# Altium footprint library ChipComponents.PcbLib: 44 footprints (part 3 of 3)
Each footprint in its own frame and in the unit in brackets; x right, y up, seen from the top. Pads: shape width x height; smd on the part's side, far side on the other; paste and mask are expansions set on the pad; w line width, h text height; cw(c..) or ccw(c..) is an arc to the next point about the centre after c.
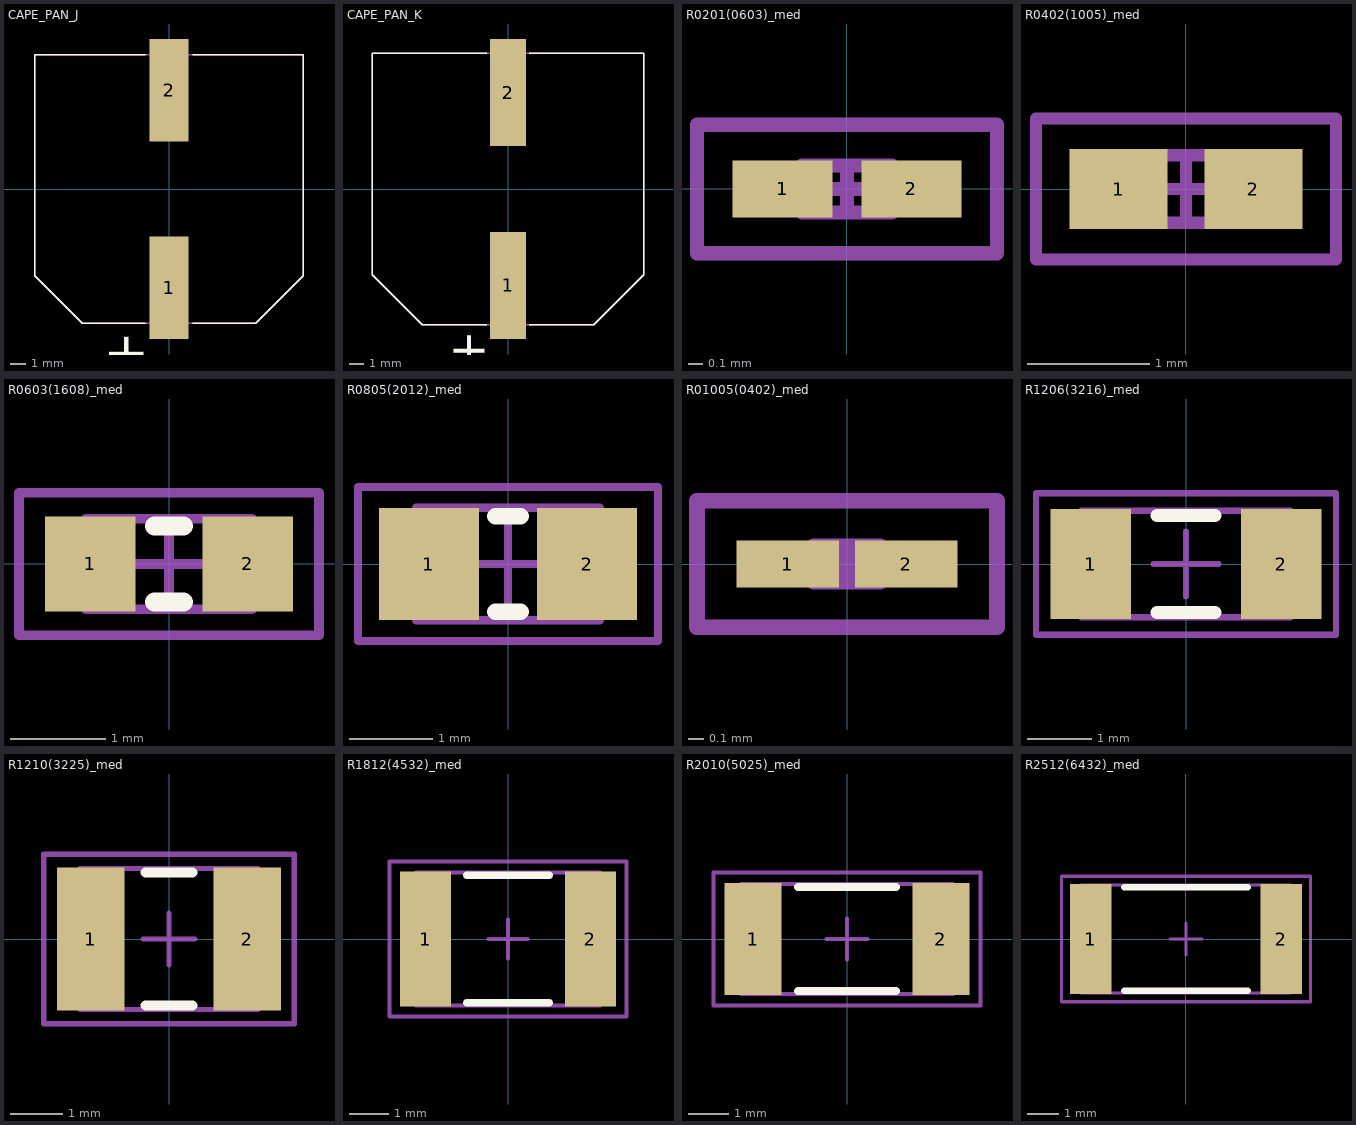
[diagram p2: the footprints below, top view; thin cyan lines are the x and y axes]

## CAPE_PAN_J [mm] "Panasonic 16x16.5"
height 16.5
pads (2):
  rect 2.5x6.5 smd: 1(0,-6.25) 2(0,6.25)
Top Overlay:
  lines w0.1: -1.5,-8.5 -5.5,-8.5 -8.5,-5.5 -8.5,8.5 -1.5,8.5 ; 1.5,-8.5 5.5,-8.5 8.5,-5.5 8.5,8.5 1.5,8.5
  text "+" at -3.8,-9 h2.54
Mechanical 13:
  lines w0.1: -8.5,-5.5 -5.5,-8.5 5.5,-8.5 8.5,-5.5 8.5,8.5 -8.5,8.5 -8.5,-5.5
3D body: height 16.5, standoff 0, extent -7.937,-7.984 8,7.984
3D body: height 1, standoff 0, extent -8.5,-8.5 8.5,8.5

## CAPE_PAN_K [mm] "Panasonic 18x16.5"
height 16.5
pads (2):
  rect 2.5x7.5 smd: 1(0,-6.75) 2(0,6.75)
Top Overlay:
  lines w0.1: -1.5,-9.5 -6,-9.5 -9.5,-6 -9.5,9.5 -1.5,9.5 ; 1.5,-9.5 6,-9.5 9.5,-6 9.5,9.5 1.5,9.5
  text "+" at -3.8,-9.9 h2.54
Mechanical 13:
  lines w0.1: -9.5,-6 -6,-9.5 ; -9.5,-6 -9.5,9.5 9.5,9.5 9.5,-6 ; -9.5,-6 -6,-9.5 ; -6,-9.5 6,-9.5 ; -6,-9.5 6,-9.5 ; 6,-9.5 9.5,-6 ; 6,-9.5 9.5,-6
3D body: height 1, standoff 0, extent -9.5,-9.5 9.5,9.5
3D body: height 16.5, standoff 0, extent -8.929,-8.982 9,8.982

## R0201(0603)_med [mm] "Chip Resistor, 2-Leads, Body 0.6x0.3mm, IPC Medium Density"
height 0.26
pads (2):
  rect 0.7x0.4 smd: 1(-0.45,0) 2(0.45,0)
Mechanical 13:
  lines w0.1: -0.315,-0.165 -0.315,0.165 0.315,0.165 0.315,-0.165 -0.315,-0.165
Mechanical 15:
  lines w0.1: -0.165,0 0.165,0 ; 0,-0.165 0,0.165 ; -1.05,-0.45 -1.05,0.45 1.05,0.45 1.05,-0.45 -1.05,-0.45
3D body: height 0.26, standoff 0, extent -0.315,-0.165 0.315,0.165

## R0402(1005)_med [mm] "Chip Resistor, 2-Leads, Body 1.0x0.5mm, IPC Medium Density"
height 0.4
pads (2):
  rect 0.8x0.65 smd: 1(-0.55,0) 2(0.55,0)
Mechanical 13:
  lines w0.1: -0.525,-0.275 0.525,-0.275 0.525,0.275 -0.525,0.275 -0.525,-0.275
Mechanical 15:
  lines w0.1: -0.275,0 0.275,0 ; 0,-0.275 0,0.275 ; -1.225,-0.575 1.225,-0.575 1.225,0.575 -1.225,0.575 -1.225,-0.575
3D body: height 0.4, standoff 0, extent -0.525,-0.275 0.525,0.275

## R0603(1608)_med [mm] "Chip Resistor, 2-Leads, Body 1.6x0.8mm, IPC Medium Density"
height 0.55
pads (2):
  rect 0.95x1 smd: 1(-0.825,0) 2(0.825,0)
Top Overlay:
  lines w0.2: -0.15,-0.4 0.15,-0.4 ; -0.15,0.4 0.15,0.4
Mechanical 13:
  lines w0.1: -0.875,-0.475 -0.875,0.475 0.875,0.475 0.875,-0.475 -0.875,-0.475
Mechanical 15:
  lines w0.1: -0.475,0 0.475,0 ; 0,-0.475 0,0.475 ; -1.575,-0.75 -1.575,0.75 1.575,0.75 1.575,-0.75 -1.575,-0.75
3D body: height 0.55, standoff 0, extent -0.875,-0.475 0.875,0.475

## R0805(2012)_med [mm] "Chip Resistor, 2-Leads, Body 2.0x1.3mm, IPC Medium Density"
height 0.7
pads (2):
  rect 1.2x1.35 smd: 1(-0.95,0) 2(0.95,0)
Top Overlay:
  lines w0.2: -0.15,-0.575 0.15,-0.575 ; -0.15,0.575 0.15,0.575
Mechanical 13:
  lines w0.1: -1.1,-0.675 -1.1,0.675 1.1,0.675 1.1,-0.675 -1.1,-0.675
Mechanical 15:
  lines w0.1: -0.5,0 0.5,0 ; 0,-0.5 0,0.5 ; -1.8,-0.925 -1.8,0.925 1.8,0.925 1.8,-0.925 -1.8,-0.925
3D body: height 0.7, standoff 0, extent -1.1,-0.675 1.1,0.675

## R01005(0402)_med [mm] "Chip Resistor, 2-Leads, Body 0.4x0.2mm, IPC Medium Density"
height 0.15
pads (2):
  rect 0.65x0.3 smd: 1(-0.375,0) 2(0.375,0)
Mechanical 13:
  lines w0.1: -0.21,-0.11 -0.21,0.11 0.21,0.11 0.21,-0.11 -0.21,-0.11
Mechanical 15:
  lines w0.1: -0.11,0 0.11,0 ; 0,-0.11 0,0.11 ; -0.95,-0.4 -0.95,0.4 0.95,0.4 0.95,-0.4 -0.95,-0.4
3D body: height 0.15, standoff 0, extent -0.21,-0.11 0.21,0.11

## R1206(3216)_med [mm] "Chip Resistor, 2-Leads, Body 3.1x1.5mm, IPC Medium Density"
height 0.7
pads (2):
  rect 1.25x1.7 smd: 1(-1.475,0) 2(1.475,0)
Top Overlay:
  lines w0.2: -0.45,-0.75 0.45,-0.75 ; -0.45,0.75 0.45,0.75
Mechanical 13:
  lines w0.1: -1.625,-0.825 -1.625,0.825 1.625,0.825 1.625,-0.825 -1.625,-0.825
Mechanical 15:
  lines w0.1: -0.5,0 0.5,0 ; 0,-0.5 0,0.5 ; -2.325,-1.1 -2.325,1.1 2.325,1.1 2.325,-1.1 -2.325,-1.1
3D body: height 0.7, standoff 0, extent -1.625,-0.825 1.625,0.825

## R1210(3225)_med [mm] "Chip Resistor, 2-Leads, Body 3.2x2.5mm, IPC Medium Density"
height 0.7
pads (2):
  rect 1.3x2.75 smd: 1(-1.5,0) 2(1.5,0)
Top Overlay:
  lines w0.2: -0.45,-1.275 0.45,-1.275 ; -0.45,1.275 0.45,1.275
Mechanical 13:
  lines w0.1: -1.7,-1.35 -1.7,1.35 1.7,1.35 1.7,-1.35 -1.7,-1.35
Mechanical 15:
  lines w0.1: -0.5,0 0.5,0 ; 0,-0.5 0,0.5 ; -2.4,-1.625 -2.4,1.625 2.4,1.625 2.4,-1.625 -2.4,-1.625
3D body: height 0.7, standoff 0, extent -1.7,-1.35 1.7,1.35

## R1812(4532)_med [mm] "Chip Resistor, 2-Leads, Body 4.5x3.2mm, IPC Medium Density"
height 0.7
pads (2):
  rect 1.3x3.45 smd: 1(-2.1,0) 2(2.1,0)
Top Overlay:
  lines w0.2: -1.05,-1.625 1.05,-1.625 ; -1.05,1.625 1.05,1.625
Mechanical 13:
  lines w0.1: -2.35,-1.7 -2.35,1.7 2.35,1.7 2.35,-1.7 -2.35,-1.7
Mechanical 15:
  lines w0.1: -0.5,0 0.5,0 ; 0,-0.5 0,0.5 ; -3.025,-1.975 -3.025,1.975 3.025,1.975 3.025,-1.975 -3.025,-1.975
3D body: height 0.7, standoff 0, extent -2.35,-1.7 2.35,1.7

## R2010(5025)_med [mm] "Chip Resistor, 2-Leads, Body 5.0x2.5mm, IPC Medium Density"
height 0.7
pads (2):
  rect 1.4x2.75 smd: 1(-2.3,0) 2(2.3,0)
Top Overlay:
  lines w0.2: -1.2,-1.275 1.2,-1.275 ; -1.2,1.275 1.2,1.275
Mechanical 13:
  lines w0.1: -2.6,-1.35 -2.6,1.35 2.6,1.35 2.6,-1.35 -2.6,-1.35
Mechanical 15:
  lines w0.1: -0.5,0 0.5,0 ; 0,-0.5 0,0.5 ; -3.275,-1.625 -3.275,1.625 3.275,1.625 3.275,-1.625 -3.275,-1.625
3D body: height 0.7, standoff 0, extent -2.6,-1.35 2.6,1.35

## R2512(6432)_med [mm] "Chip Resistor, 2-Leads, Body 6.4x3.2mm, IPC Medium Density"
height 0.7
pads (2):
  rect 1.3x3.45 smd: 1(-3,0) 2(3,0)
Top Overlay:
  lines w0.2: -1.95,-1.625 1.95,-1.625 ; -1.95,1.625 1.95,1.625
Mechanical 13:
  lines w0.1: -3.3,-1.7 -3.3,1.7 3.3,1.7 3.3,-1.7 -3.3,-1.7
Mechanical 15:
  lines w0.1: -0.5,0 0.5,0 ; 0,-0.5 0,0.5 ; -3.925,-1.975 -3.925,1.975 3.925,1.975 3.925,-1.975 -3.925,-1.975
3D body: height 0.7, standoff 0, extent -3.3,-1.7 3.3,1.7